# Altium footprint library PcbLib1.PcbLib: 31 footprints (part 2 of 2)
Each footprint in its own frame and in the unit in brackets; x right, y up, seen from the top. Pads: shape width x height; smd on the part's side, far side on the other; paste and mask are expansions set on the pad; w line width, h text height; cw(c..) or ccw(c..) is an arc to the next point about the centre after c.
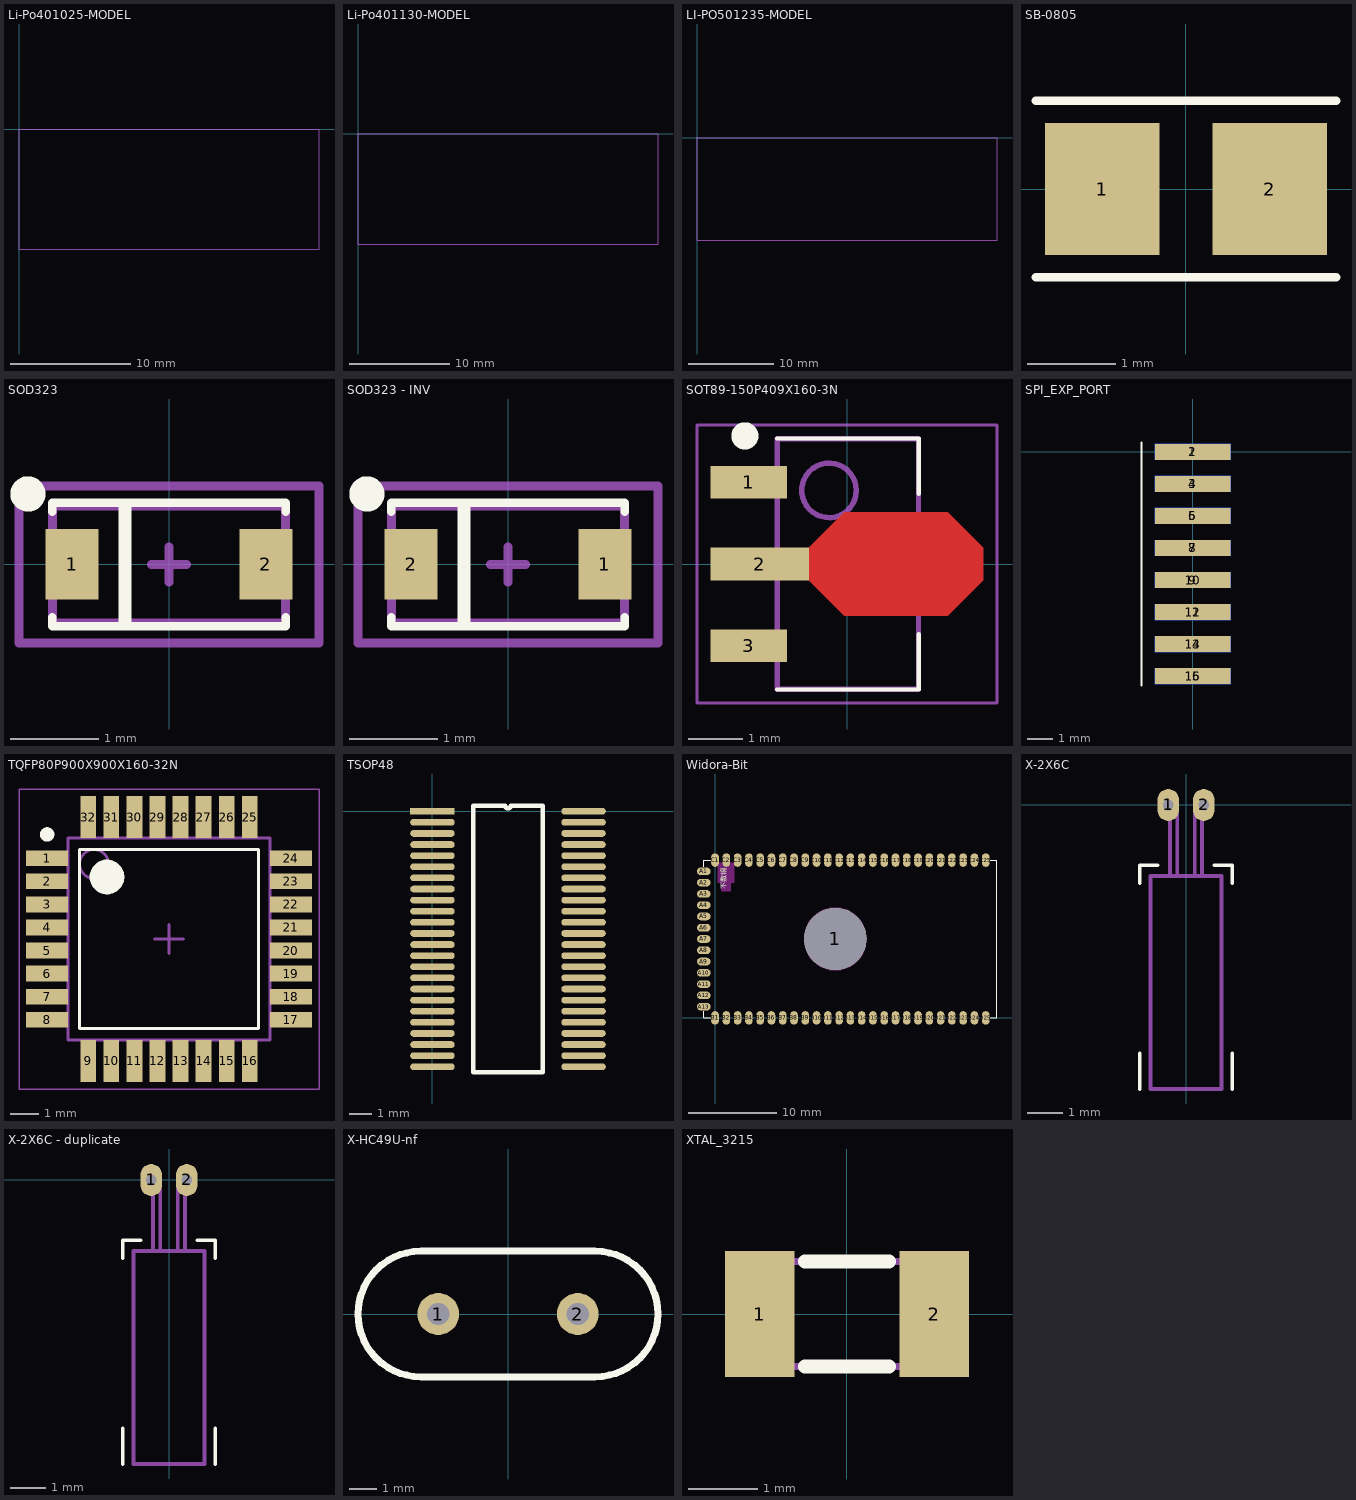
[diagram p1: the footprints below, top view; thin cyan lines are the x and y axes]

## Li-Po401025-MODEL [mm]
height 4
Mechanical 1:
  lines w0.076: 0,-10 25,-10 25,0 0,0 0,-10
3D body: height 4, standoff 1, extent 0,-10 25,0

## Li-Po401130-MODEL [mm]
height 4
Mechanical 1:
  lines w0.076: 0,-11 30,-11 30,0 0,0 0,-11
3D body: height 4, standoff 0, extent 0,-11 30,0

## LI-PO501235-MODEL [mm]
height 5
Mechanical 1:
  lines w0.076: 0,-12 0,0 35,0 35,-12 0,-12
3D body: height 5, standoff 0, extent 0,-11.989 35,0

## SB-0805 [mm] "Configurable Solder Bridge"
height 1.1
pads (2):
  rect 1.3x1.5 smd: 1(-0.95,0) 2(0.95,0)
Top Overlay:
  lines w0.1: -1.7,-1 1.7,-1 ; -1.7,1 1.7,1

## SOD323 [mm] "Molded SOD323, Body 2,7X1,35(MAX)"
height 1.2
pads (2):
  rect 0.6x0.8 smd mask+0: 1(-1.1,0) 2(1.1,0)
Top Overlay:
  circle w0.2: c-1.6,0.8 r0.1
  lines w0.1: -1.325,-0.6 -1.325,-0.7 1.325,-0.7 1.325,-0.6 ; -1.325,0.6 -1.325,0.7 1.325,0.7 1.325,0.6
  lines w0.15: -0.5,-0.66 -0.5,0.66
Mechanical 1:
  lines w0.1: -0.2,0 0.2,0 ; 0,-0.2 0,0.2 ; -1.702,-0.889 -1.702,0.889 1.702,0.889 1.702,-0.889 -1.702,-0.889
Mechanical 2:
  lines w0.1: -0.5,-0.66 -0.5,0.66 ; -1.321,-0.66 1.321,-0.66 1.321,0.66 -1.321,0.66 -1.321,-0.66
3D body "SW3dPS-SOD-323.STEP": height 1.1, standoff 0, extent -1.3,-0.675 1.3,0.675
3D body: height 0.1, standoff -0.1, extent -1.4,-0.4 -0.8,0.4
3D body: height 0.1, standoff -0.1, extent 0.8,-0.4 1.4,0.4

## SOD323 - INV [mm] "Molded SOD323, Body 2,7X1,35(MAX)"
height 1.2
pads (2):
  rect 0.6x0.8 smd mask+0: 1(1.1,0) 2(-1.1,0)
Top Overlay:
  circle w0.2: c-1.6,0.8 r0.1
  lines w0.1: -1.325,-0.6 -1.325,-0.7 1.325,-0.7 1.325,-0.6 ; -1.325,0.6 -1.325,0.7 1.325,0.7 1.325,0.6
  lines w0.15: -0.5,-0.66 -0.5,0.66
Mechanical 1:
  lines w0.1: -0.2,0 0.2,0 ; 0,-0.2 0,0.2 ; -1.702,-0.889 1.702,-0.889 1.702,0.889 -1.702,0.889 -1.702,-0.889
Mechanical 2:
  lines w0.1: -0.5,-0.66 -0.5,0.66 ; -1.321,-0.66 -1.321,0.66 1.321,0.66 1.321,-0.66 -1.321,-0.66
3D body: height 0.1, standoff -0.1, extent 0.8,-0.4 1.4,0.4
3D body: height 0.1, standoff -0.1, extent -1.4,-0.4 -0.8,0.4
3D body "SW3dPS-SOD-323.STEP": height 1.1, standoff 0, extent -1.3,-0.675 1.3,0.675

## SOT89-150P409X160-3N [mm] "SOT89, 3-Leads, Body 4.50x2.44mm, Pitch 1.50mm, Lead Span 4.1mm, IPC Medium Density"
height 1.61
pads (3):
  rect 1.4x0.6 smd: 1(-1.8,1.499) 3(-1.8,-1.499)
  rect 1.8x0.6 smd: 2(-1.6,0)
Top Layer:
  region: -0.7,0.3 -0.05,0.95 1.85,0.95 2.5,0.3 2.5,-0.3 1.85,-0.95 -0.05,-0.95 -0.7,-0.3
Top Overlay:
  circle w0.25: c-1.872,2.349 r0.125
  lines w0.076: -1.284,-2.3 1.316,-2.3 1.316,-1.288 ; -1.284,2.3 1.316,2.3 1.316,1.288
Mechanical 13:
  circle w0.1: c-0.329,1.35 r0.5
  lines w0.1: -1.279,-2.3 -1.279,2.3 1.311,2.3 1.311,-2.3 -1.279,-2.3
Mechanical 15:
  lines w0.05: -2.75,-2.55 -2.75,2.55 2.75,2.55 2.75,-2.55 -2.75,-2.55
  lines w0.1: -0.484,0 0.516,0 ; 0.016,-0.5 0.016,0.5
3D body "SOT89-150P409X160-3N.step": height 1.6, standoff 0, extent -2.189,-2.295 1.805,2.295

## SPI_EXP_PORT [mm]
pads (16):
  rect 3x0.63 smd far side paste+0.051: 1(0,0) 3(0,-1.27) 5(0,-2.54) 7(0,-3.81) 9(0,-5.08) 11(0,-6.35) 13(0,-7.62) 15(0,-8.89)
  rect 3x0.63 smd paste+0.051: 2(0,0) 4(0,-1.27) 6(0,-2.54) 8(0,-3.81) 10(0,-5.08) 12(0,-6.35) 14(0,-7.62) 16(0,-8.89)
Top Overlay:
  lines w0.076: -2.032,-9.271 -2.032,0.381
Bottom Overlay:
  lines w0.076: -2.032,-9.271 -2.032,0.381
3D body: height 1.05, standoff -2.05, extent -10.541,-9.271 -2.032,0.381

## TQFP80P900X900X160-32N [mm] "TQFP, 32-Leads, Body 7.00x7.00mm, Pitch 0.80mm, IPC Medium Density"
height 1.6
pads (32):
  rect 1.45x0.55 smd: 1(-12.675,11.25) 2(-12.675,10.45) 3(-12.675,9.65) 4(-12.675,8.85) 5(-12.675,8.05) 6(-12.675,7.25) 7(-12.675,6.45) 8(-12.675,5.65) 17(-4.225,5.65) 18(-4.225,6.45) 19(-4.225,7.25) 20(-4.225,8.05) 21(-4.225,8.85) 22(-4.225,9.65) 23(-4.225,10.45) 24(-4.225,11.25)
  rect 0.55x1.45 smd: 9(-11.25,4.225) 10(-10.45,4.225) 11(-9.65,4.225) 12(-8.85,4.225) 13(-8.05,4.225) 14(-7.25,4.225) 15(-6.45,4.225) 16(-5.65,4.225) 25(-5.65,12.675) 26(-6.45,12.675) 27(-7.25,12.675) 28(-8.05,12.675) 29(-8.85,12.675) 30(-9.65,12.675) 31(-10.45,12.675) 32(-11.25,12.675)
Top Overlay:
  circle w0.6: c-10.6,10.6 r0.3
  circle w0.25: c-12.675,12.075 r0.125
  lines w0.1: -11.55,5.35 -5.35,5.35 -5.35,11.55 -11.55,11.55 -11.55,5.35
Mechanical 13:
  circle w0.1: c-11.05,11.05 r0.5
  lines w0.1: -11.95,4.95 -4.95,4.95 -4.95,11.95 -11.95,11.95 -11.95,4.95
Mechanical 15:
  lines w0.05: -13.65,3.25 -3.25,3.25 -3.25,13.65 -13.65,13.65 -13.65,3.25
  lines w0.1: -8.95,8.45 -7.95,8.45 ; -8.45,7.95 -8.45,8.95
3D body "TQFP80P900X900X160-32N.step": height 1.6, standoff 0, extent -12.95,3.95 -3.95,12.95

## TSOP48 [mm]
pads (48):
  rect 2x0.3 smd: 1(0,0)
  oval 2x0.3 smd: 2(0,-0.5) 3(0,-1) 4(0,-1.5) 5(0,-2) 6(0,-2.5) 7(0,-3) 8(0,-3.5) 9(0,-4) 10(0,-4.5) 11(0,-5) 12(0,-5.5) 13(0,-6) 14(0,-6.5) 15(0,-7) 16(0,-7.5) 17(0,-8) 18(0,-8.5) 19(0,-9) 20(0,-9.5) 21(0,-10) 22(0,-10.5) 23(0,-11) 24(0,-11.5) 25(6.8,-11.5) 26(6.8,-11) 27(6.8,-10.5) 28(6.8,-10) 29(6.8,-9.5) 30(6.8,-9) 31(6.8,-8.5) 32(6.8,-8) 33(6.8,-7.5) 34(6.8,-7) 35(6.8,-6.5) 36(6.8,-6) 37(6.8,-5.5) 38(6.8,-5) 39(6.8,-4.5) 40(6.8,-4) 41(6.8,-3.5) 42(6.8,-3) 43(6.8,-2.5) 44(6.8,-2) 45(6.8,-1.5) 46(6.8,-1) 47(6.8,-0.5) 48(6.8,0)
Top Overlay:
  lines w0.2: 1.835,-11.75 4.965,-11.75 4.965,0.25 3.525,0.25 cw(c3.4,0.25) 3.275,0.25 1.835,0.25 1.835,-11.75

## Widora-Bit [mil]
pads (64):
  round 275.59 hole 275.59 paste+0 mask+0: 1(533.11,350.12)
  oval 60x34 smd mask+2: A1(-50,650) A2(-50,600) A3(-50,550) A4(-50,500) A5(-50,450) A6(-50,400) A7(-50,350) A8(-50,300) A9(-50,250) A10(-50,200) A11(-50,150) A12(-50,100) A13(-50,50)
  oval 34x60 smd mask+2: B1(0,0) B2(50,0) B3(100,0) B4(150,0) B5(200,0) B6(250,0) B7(300,0) B8(350,0) B9(400,0) B10(450,0) B11(500,0) B12(550,0) B13(600,0) B14(650,0) B15(700,0) B16(750,0) B17(800,0) B18(850,0) B19(900,0) B20(950,0) B21(1000,0) B22(1050,0) B23(1100,0) B24(1150,0) B25(1200,0) C1(0,700) C2(50,700) C3(100,700) C4(150,700) C5(200,700) C6(250,700) C7(300,700) C8(350,700) C9(400,700) C10(450,700) C11(500,700) C12(550,700) C13(600,700) C14(650,700) C15(700,700) C16(750,700) C17(800,700) C18(850,700) C19(900,700) C20(950,700) C21(1000,700) C22(1050,700) C23(1100,700) C24(1150,700) C25(1200,700)
Top Overlay:
  lines w3.94: -50,30 -50,0 -20,0 ; -50,670 -50,700 -20,700 ; 1220,0 1250,0 1250,700 1220,700
  text "此区域镂空" at 402,334 h60
  text "不敷铜" at 58,571 h40
Keep-Out Layer:
  circle w3.94: c533.13,350.13 r137.8
  pour cut-out: 11.39,686.97 11.39,600.32 27.09,600.32 27.09,560.97 70.44,560.97 70.44,600.32 86.19,600.32 86.19,686.97
3D body: height 78.74, standoff 0, extent -50,0 1250,700

## X-2X6C [mm] "Cylinder Xtal"
height 6
pads (2):
  oval 0.6x0.9 hole 0.3: 1(-0.5,0) 2(0.5,0)
Top Overlay:
  lines w0.1: -1.3,-8 -1.3,-7 ; -1.3,-2.2 -1.3,-1.7 -0.8,-1.7 ; 0.8,-1.7 1.3,-1.7 1.3,-2.2 ; 1.3,-8 1.3,-7
Mechanical 13:
  lines w0.1: -0.45,-2 -0.45,0 ; -0.25,-2 -0.25,0 ; 0.25,-2 0.25,0 ; 0.45,-2 0.45,0 ; -1,-8 1,-8 1,-2 -1,-2 -1,-8
3D body: height 2, standoff 0, extent -0.992,-7.998 1,-1.998

## X-2X6C - duplicate [mm] "Cylinder Xtal"
height 6
pads (2):
  oval 0.6x0.9 hole 0.3: 1(-0.5,0) 2(0.5,0)
Top Overlay:
  lines w0.1: -1.3,-8 -1.3,-7 ; -1.3,-2.2 -1.3,-1.7 -0.8,-1.7 ; 0.8,-1.7 1.3,-1.7 1.3,-2.2 ; 1.3,-8 1.3,-7
Mechanical 13:
  lines w0.1: -0.45,-2 -0.45,0 ; -0.25,-2 -0.25,0 ; 0.25,-2 0.25,0 ; 0.45,-2 0.45,0 ; -1,-8 1,-8 1,-2 -1,-2 -1,-8
3D body: height 2, standoff 0, extent -0.992,-7.998 1,-1.998

## X-HC49U-nf [mil] "插件晶振"
height 157.48
pads (2):
  round 60 hole 32: 1(-100,0) 2(100,0)
Top Overlay:
  lines w10: -125,-90 cw(c-125,0) -125,90 125,90 cw(c125,0) 125,-90 -125,-90

## XTAL_3215 [mm]
pads (2):
  rect 1x1.8 smd: 1(-1.25,0) 2(1.25,0)
Top Overlay:
  lines w0.2: -0.6,-0.75 0.6,-0.75 ; -0.6,0.75 0.6,0.75
Mechanical 3:
  lines w0.1: -1.6,-0.55 cw(c-1.6,-0.75) -1.4,-0.75 1.4,-0.75 cw(c1.6,-0.75) 1.6,-0.55 1.6,0.55 cw(c1.6,0.75) 1.4,0.75 -1.4,0.75 cw(c-1.6,0.75) -1.6,0.55 -1.6,-0.55
3D body: height 0.81, standoff 0.15, extent -1.2,-0.6 1.2,0.6
3D body "User Library-Siward_SX3215.step": height 0.81, standoff 0, extent -1.6,-0.75 1.6,0.75